# EAGLE library part INA125U (library burr-brown)
Instrumentation Amplifier with Precision Voltage Reference
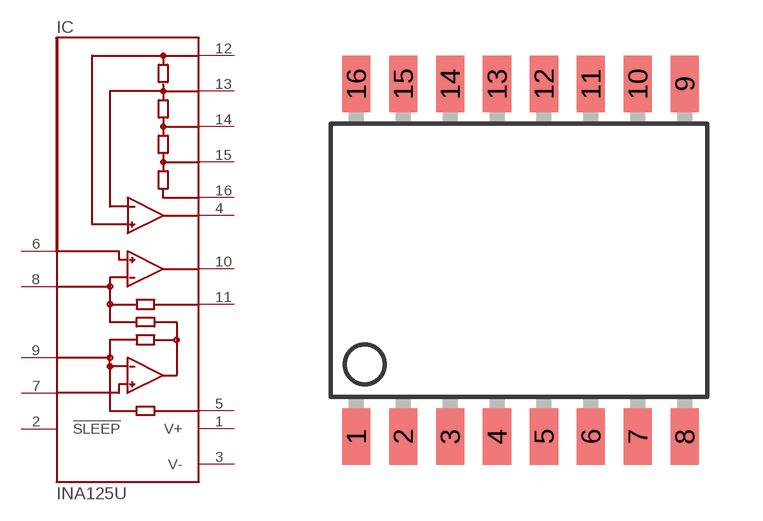
[diagram p245: symbol with the pads of SO16-1; footprint SO16-1]

Designator prefix IC

## INA125U  [SO16-1]
1  V+  pwr
2  !SLEEP  in
3  V-  pwr
4  REFOUT  out
5  REF  pas
6  +IN  in
7  -IN  in
8  RG  pas
9  RG  pas
10  OUT  out
11  SENSE  pas
12  REFCOM  pas
13  REFBG  out
14  REF2.5  out
15  REF5  out
16  REF10  out

## Footprint SO16-1 (pad centres in mm)
smd 0.762 x 1.524: 1 -4.445,-4.775; 2 -3.175,-4.775; 3 -1.905,-4.775; 4 -0.635,-4.775; 5 0.635,-4.775; 6 1.905,-4.775; 7 3.175,-4.775; 8 4.445,-4.775; 9 4.445,4.775; 10 3.175,4.775; 11 1.905,4.775; 12 0.635,4.775; 13 -0.635,4.775; 14 -1.905,4.775; 15 -3.175,4.775; 16 -4.445,4.775